# Altium footprint library 416131160808.PcbLib: 1 footprints
Each footprint in its own frame and in the unit in brackets; x right, y up, seen from the top. Pads: shape width x height; smd on the part's side, far side on the other; paste and mask are expansions set on the pad; w line width, h text height; cw(c..) or ccw(c..) is an arc to the next point about the centre after c.
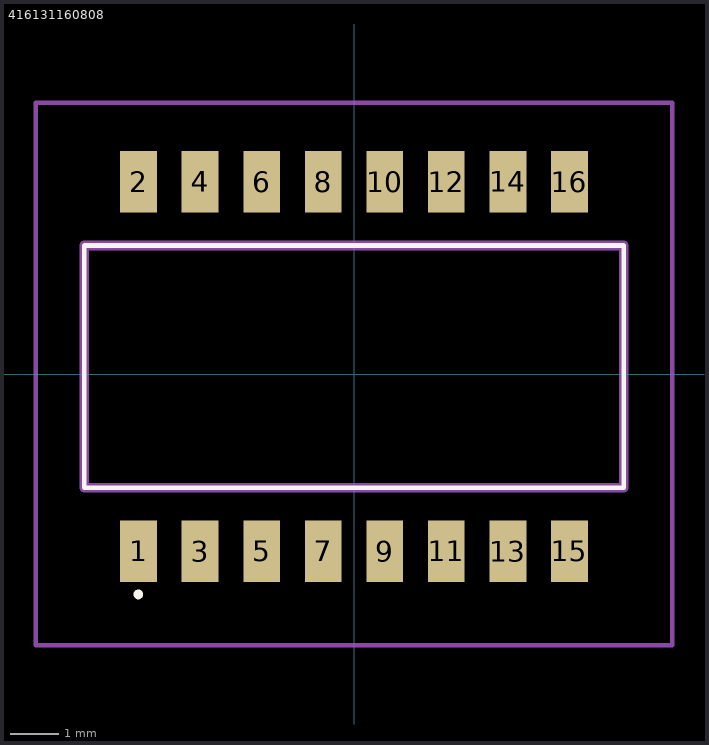
[diagram p0: the footprint, top view; thin cyan lines are the x and y axes]

## 416131160808 [mm]
pads (16):
  rect 0.76x1.27 smd: 1(-4.445,-3.657) 2(-4.445,3.963) 3(-3.175,-3.657) 4(-3.175,3.963) 5(-1.905,-3.657) 6(-1.905,3.963) 7(-0.635,-3.657) 8(-0.635,3.963) 9(0.635,-3.657) 10(0.635,3.963) 11(1.905,-3.657) 12(1.905,3.963) 13(3.175,-3.657) 14(3.175,3.963) 15(4.445,-3.657) 16(4.445,3.963)
Top Overlay:
  lines w0.1: -5.565,-2.347 5.565,-2.347 5.565,2.653 -5.565,2.653 -5.565,-2.347 ; -4.5,-4.548 cw(c-4.45,-4.548) -4.4,-4.548 cw(c-4.45,-4.548) -4.5,-4.548
Mechanical 13:
  lines w0.2: -5.565,-2.347 5.565,-2.347 5.565,2.653 -5.565,2.653 -5.565,-2.347
Mechanical 15:
  lines w0.1: -6.565,-5.598 6.565,-5.598 6.565,5.598 -6.565,5.598 -6.565,-5.598